# EAGLE library part LTC1864L_ (library ADC)
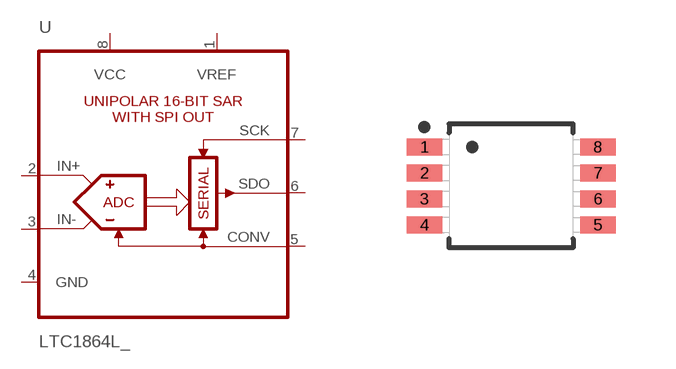
[diagram p0: symbol with the pads of LTC1864LCMS8; footprint LTC1864LCMS8]

Designator prefix U

## LTC1864L_CMS8  [LTC1864LCMS8]
1  VREF
2  IN+
3  IN-
4  GND
5  CONV
6  SDO
7  SCK
8  VCC

## Footprint LTC1864LCMS8 (pad centres in mm)
smd 0.89 x 0.42: 1 -2.17,0.975; 2 -2.17,0.325; 3 -2.17,-0.325; 4 -2.17,-0.975; 5 2.17,-0.975; 6 2.17,-0.325; 7 2.17,0.325; 8 2.17,0.975